# Altium integrated library Linear Technology Power Management LDO Linear Regulators.IntLib: 2339 symbols (part 95 of 131)
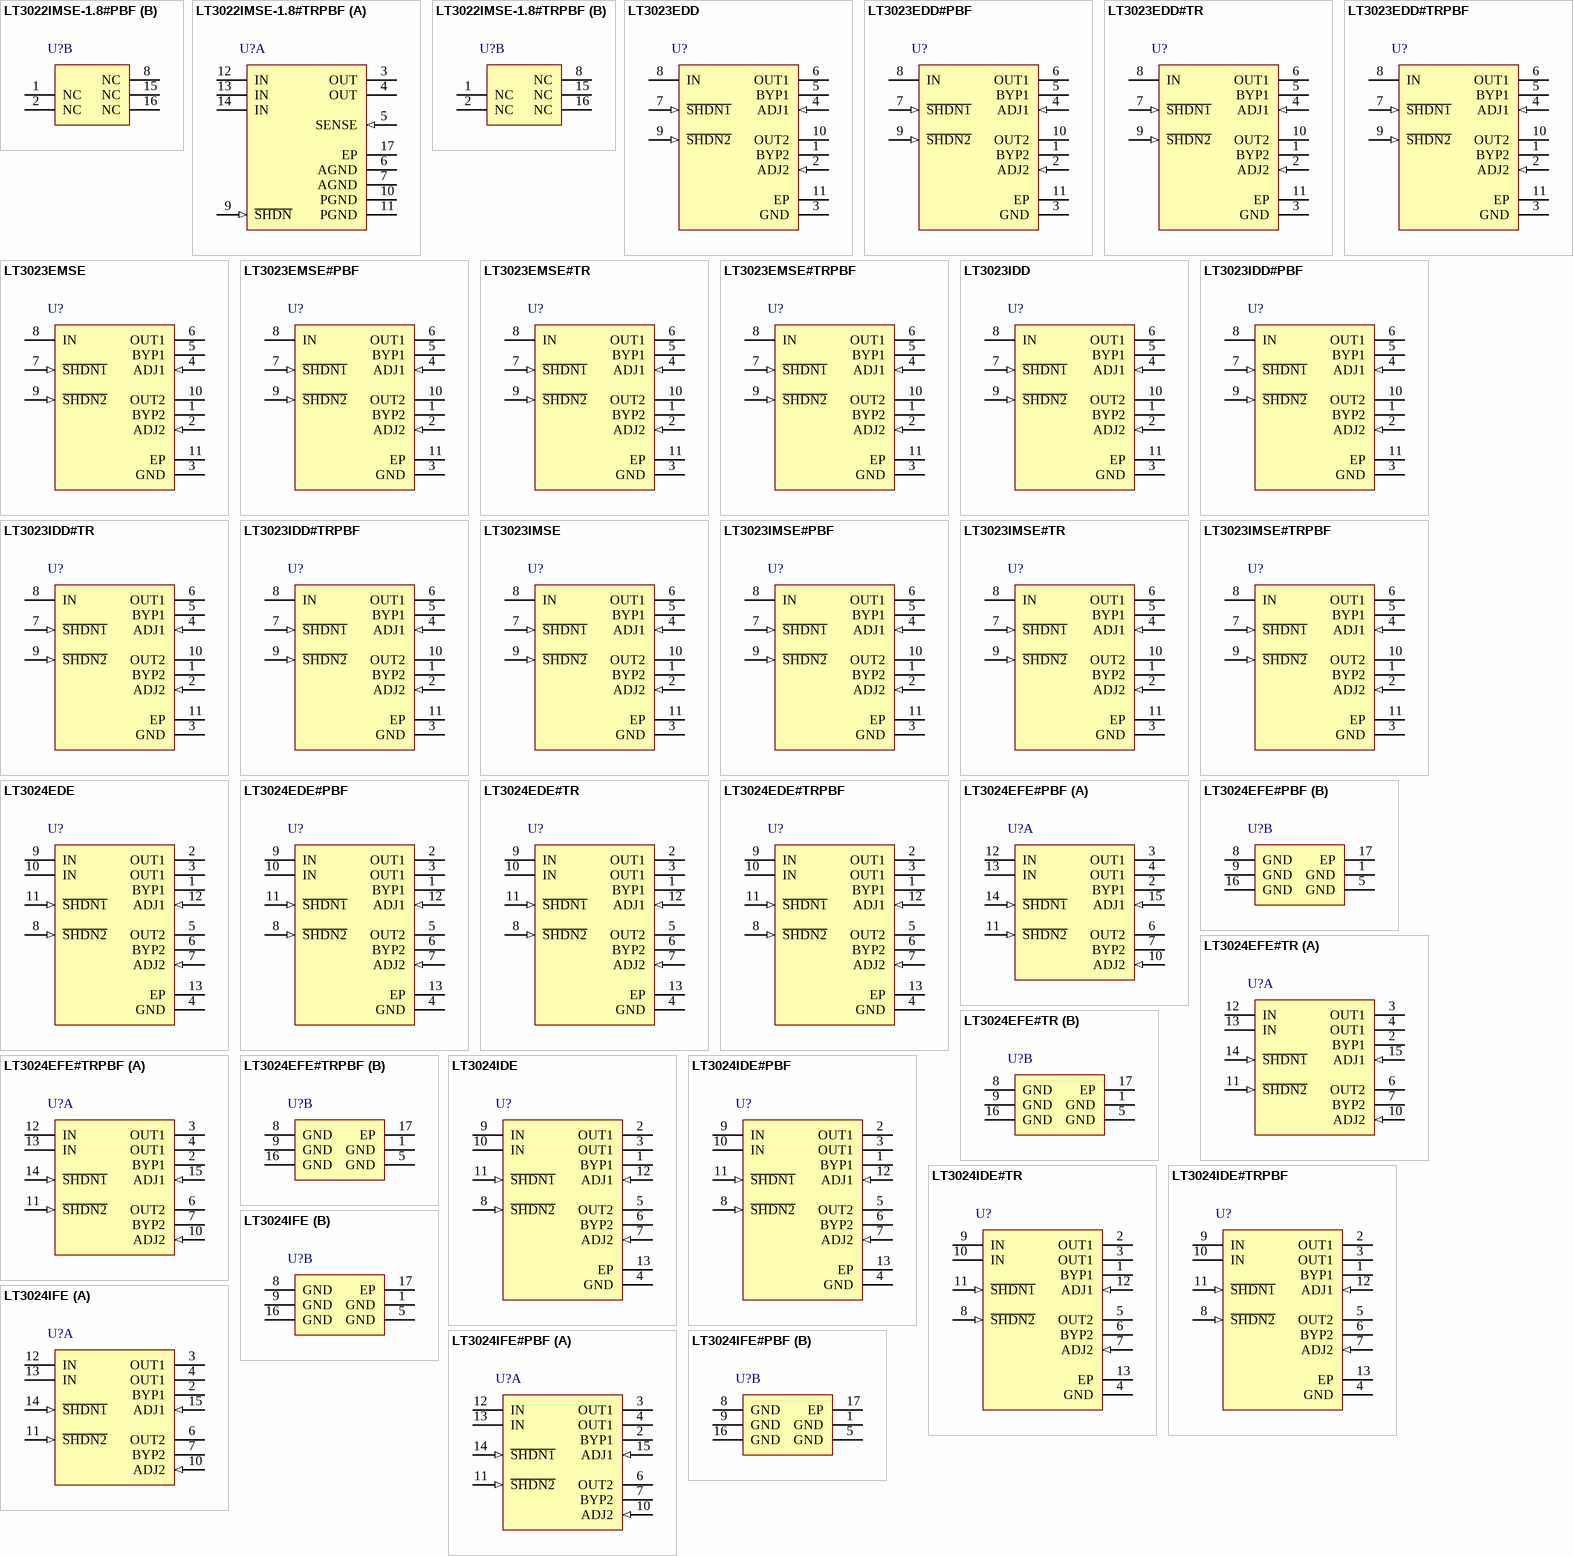
[diagram p163: symbols LT3022IMSE-1.8#PBF to LT3024IFE#PBF]

## LT3022IMSE-1.8#TRPBF
designator U?
1 A, Very Low Dropout Linear Regulator, 0.9 to 10 V Vin, 1.8 V Vout, 16-pin SOP (MSE-16-EDP), -40 to 125 degC, Pb-Free, Tape and Reel; Manufacturer: Linear Technology; PartNumber: LT3022IMSE-1.8#TRPBF; Discrete Pass Element: no; Dropout Voltage(V): 0.145; Iout(mA): 1000; Isupply(mA): 0.4; Noise(uV): 165; Number of Outputs: 1; Output Voltage: 1.8 V; PSRR(dB): 66; Shutdown Current(uA): 7.5; Vin Max(V): 10; Vin Min(V): 0.9; DatasheetVersion: Rev. B; PackageVersion: Rev. F, 05/2013; PackageReference: MSE-16; PackageDescription: 16-Pin Plastic MSOP, Exposed Die Pad, Body 4.039 x 3 mm, Pitch 0.5 mm; Supplier 1: Digi-Key; Supplier Part Number 1: LT3022IMSE-1.8#TRPBF-ND; Supplier 2: Newark; Supplier Part Number 2: 13T4235; Packing: Tape and Reel; RoHS: TRUE; Mounting Technology: Surface Mount; ComponentLink1Description: Manufacturer URL; ComponentLink1URL: http://www.linear.com/; ComponentLink2Description: Datasheet; ComponentLink2URL: http://cds.linear.com/docs/en/datasheet/3022fb.pdf; ComponentLink3Description: Package Specification; ComponentLink3URL: http://cds.linear.com/docs/en/packaging/05081667_F_MSE16.pdf
footprint LT-MSE-16-EDP_N (SOP, 16-Leads, Body 4.039x3mm, Pitch 0.5mm, Thermal Pad 2.95x1.76mm, IPC Medium Density)
footprint LT-MSE-16-EDP_L (SOP, 16-Leads, Body 4.039x3mm, Pitch 0.5mm, Thermal Pad 2.95x1.76mm, IPC High Density)
footprint LT-MSE-16-EDP_M (SOP, 16-Leads, Body 4.039x3mm, Pitch 0.5mm, Thermal Pad 2.95x1.76mm, IPC Low Density)
part A pins: 3 OUT (power) "These pins supply power to the load. Use a minimum output capacitor of 10uF to prevent oscillations. Large load transient applications require larger output capacitors to limit peak voltage transients. See the Applications (See Datasheet)", 4 OUT (power) "These pins supply power to the load. Use a minimum output capacitor of 10uF to prevent oscillations. Large load transient applications require larger output capacitors to limit peak voltage transients. See the Applications (See Datasheet)", 5 SENSE (in) "This pin is the sense point for the internal resistor divider. It should be tied directly to the OUT pins for best results.", 6 AGND (power) "Analog Ground. Tie these pins directly to PGND (Pins 10, 11) and the exposed backside GND (Pin 17). Connect the bottom of the external resistor divider, setting output voltage, directly to AGND for optimum regulation.", 7 AGND (power) "Analog Ground. Tie these pins directly to PGND (Pins 10, 11) and the exposed backside GND (Pin 17). Connect the bottom of the external resistor divider, setting output voltage, directly to AGND for optimum regulation.", 9 ~{SHDN} (in) "Pulling the S\H\D\N\ pin low puts the LT3022 into a low power state and turns the output off. Drive the S\H\D\N\ pin with either logic or an open-collector/drain device with a pull-up resistor. The resistor supplies the (See Datasheet)", 10 PGND (power) "Power Ground. The majority of ground pin current flows out of PGND. Tie these pins directly to AGND (Pins 6, 7) and the exposed backside GND (Pin 17).", 11 PGND (power) "Power Ground. The majority of ground pin current flows out of PGND. Tie these pins directly to AGND (Pins 6, 7) and the exposed backside GND (Pin 17).", 12 IN (power) "These pins supply power to the device. The LT3022 requires a bypass capacitor at IN if located more than six inches from the main input filter capacitor. Include a bypass capacitor in battery-powered circuits as a (See Datasheet)", 13 IN (power) "These pins supply power to the device. The LT3022 requires a bypass capacitor at IN if located more than six inches from the main input filter capacitor. Include a bypass capacitor in battery-powered circuits as a (See Datasheet)", 14 IN (power) "These pins supply power to the device. The LT3022 requires a bypass capacitor at IN if located more than six inches from the main input filter capacitor. Include a bypass capacitor in battery-powered circuits as a (See Datasheet)", 17 EP (power) "Exposed Pad. Tie this pin directly to AGND (Pins 6, 7), PGND (Pins 10, 11) and the PCB ground. This pin provides enhanced thermal performance with its connection to the PCB ground. See the Applications Information section (See Datasheet)"
part B pins: 1 NC "No Connect Pins. These pins have no connection to internal circuitry. These pins may be floated, tied to VIN or tied to GND for improved thermal performance.", 2 NC "No Connect Pins. These pins have no connection to internal circuitry. These pins may be floated, tied to VIN or tied to GND for improved thermal performance.", 8 NC "No Connect Pins. These pins have no connection to internal circuitry. These pins may be floated, tied to VIN or tied to GND for improved thermal performance.", 15 NC "No Connect Pins. These pins have no connection to internal circuitry. These pins may be floated, tied to VIN or tied to GND for improved thermal performance.", 16 NC "No Connect Pins. These pins have no connection to internal circuitry. These pins may be floated, tied to VIN or tied to GND for improved thermal performance."

## LT3023EDD
designator U?
Dual 100 mA, Low Dropout, Low Noise, Micropower Regulator, 1.8 to 20 V Vin, Adjustable Vout, 10-pin SON (DD-10), -40 to 125 degC; Manufacturer: Linear Technology; PartNumber: LT3023EDD; Discrete Pass Element: no; Dropout Voltage(V): 0.3; Iout(mA): 100; Isupply(mA): 0.02; Noise(uV): 20; Number of Outputs: 2; Output Voltage: Adj; PSRR(dB): 65; Shutdown Current(uA): 0.1; Vin Min(V): 1.8; Vout Min(V): 1.22; DatasheetVersion: Rev. A; PackageVersion: Rev. C, 06/2010; PackageReference: DD-10; PackageDescription: 10-Pin Plastic DFN, Body 3 x 3 mm, Pitch 0.5 mm; Supplier 1: Digi-Key; Supplier Part Number 1: LT3023EDD-ND; RoHS: FALSE; Vin Max(V): 20; Vout Max(V): 20; Mounting Technology: Surface Mount; Code_JEDEC: MO-229; ComponentLink1Description: Manufacturer URL; ComponentLink1URL: http://www.linear.com/; ComponentLink2Description: Datasheet; ComponentLink2URL: http://cds.linear.com/docs/en/datasheet/3023fa.pdf; ComponentLink3Description: Package Specification; ComponentLink3URL: http://cds.linear.com/docs/en/packaging/DFN_10_05-08-1699.pdf
footprint LT-DD-10_V (SON, 10-Leads, Body 3x3mm, Pitch 0.5mm, Thermal Pad 2.38x1.65mm)
pins: 1 BYP2 "Bypass. The BYP1/BYP2 pins are used to bypass the reference of the LT3023 regulator to achieve low noise performance from the regulator. The BYP1/BYP2 pins are clamped internally to +/-0.6V (one VBE) from ground. A small (See Datasheet)", 2 ADJ2 (in) "Adjust Pin. These are the inputs to the error amplifiers. These pins are internally clamped to +/-7V. They have a bias current of 30nA which flows into the pin (see curve of ADJ1/ADJ2 Pin Bias Current vs Temperature in the (See Datasheet)", 3 GND (power) "Ground.", 4 ADJ1 (in) "Adjust Pin. These are the inputs to the error amplifiers. These pins are internally clamped to +/-7V. They have a bias current of 30nA which flows into the pin (see curve of ADJ1/ADJ2 Pin Bias Current vs Temperature in the (See Datasheet)", 5 BYP1 "Bypass. The BYP1/BYP2 pins are used to bypass the reference of the LT3023 regulator to achieve low noise performance from the regulator. The BYP1/BYP2 pins are clamped internally to +/-0.6V (one VBE) from ground. A small (See Datasheet)", 6 OUT1 (power) "Output. The outputs supply power to the loads. A minimum output capacitor of 1uF is required to prevent oscillations. Larger output capacitors will be required for applications with large transient loads to limit peak (See Datasheet)", 7 ~{SHDN1} (in) "Shutdown. The S\H\D\N\1\/S\H\D\N\2\ pins are used to put the corresponding channel of the LT3023 regulator into a low power shutdown state. The output will be off when the pin is pulled low. The S\H\D\N\1\/S\H\D\N\2\ pins (See Datasheet)", 8 IN (power) "Input. Power is supplied to the device through the IN pin. A bypass capacitor is required on this pin if the device is more than six inches away from the main input filter capacitor. In general, the output impedance of a (See Datasheet)", 9 ~{SHDN2} (in) "Shutdown. The S\H\D\N\1\/S\H\D\N\2\ pins are used to put the corresponding channel of the LT3023 regulator into a low power shutdown state. The output will be off when the pin is pulled low. The S\H\D\N\1\/S\H\D\N\2\ pins (See Datasheet)", 10 OUT2 (power) "Output. The outputs supply power to the loads. A minimum output capacitor of 1uF is required to prevent oscillations. Larger output capacitors will be required for applications with large transient loads to limit peak (See Datasheet)", 11 EP (power) "Ground. This pin must be soldered to the PCB and electrically connected to ground."

## LT3023EDD#PBF
designator U?
Dual 100 mA, Low Dropout, Low Noise, Micropower Regulator, 1.8 to 20 V Vin, Adjustable Vout, 10-pin SON (DD-10), -40 to 125 degC, Pb-Free; Manufacturer: Linear Technology; PartNumber: LT3023EDD#PBF; Discrete Pass Element: no; Dropout Voltage(V): 0.3; Iout(mA): 100; Isupply(mA): 0.02; Noise(uV): 20; Number of Outputs: 2; Output Voltage: Adj; PSRR(dB): 65; Shutdown Current(uA): 0.1; Vin Min(V): 1.8; Vout Min(V): 1.22; DatasheetVersion: Rev. A; PackageVersion: Rev. C, 06/2010; PackageReference: DD-10; PackageDescription: 10-Pin Plastic DFN, Body 3 x 3 mm, Pitch 0.5 mm; Supplier 1: Digi-Key; Supplier Part Number 1: LT3023EDD#PBF-ND; Supplier 2: Farnell; Supplier Part Number 2: 1663548; Supplier 3: Newark; Supplier Part Number 3: 57M8010; RoHS: TRUE; Vin Max(V): 20; Vout Max(V): 20; Mounting Technology: Surface Mount; Code_JEDEC: MO-229; ComponentLink1Description: Manufacturer URL; ComponentLink1URL: http://www.linear.com/; ComponentLink2Description: Datasheet; ComponentLink2URL: http://cds.linear.com/docs/en/datasheet/3023fa.pdf; ComponentLink3Description: Package Specification; ComponentLink3URL: http://cds.linear.com/docs/en/packaging/DFN_10_05-08-1699.pdf
footprint LT-DD-10_V (SON, 10-Leads, Body 3x3mm, Pitch 0.5mm, Thermal Pad 2.38x1.65mm)
pins: 1 BYP2 "Bypass. The BYP1/BYP2 pins are used to bypass the reference of the LT3023 regulator to achieve low noise performance from the regulator. The BYP1/BYP2 pins are clamped internally to +/-0.6V (one VBE) from ground. A small (See Datasheet)", 2 ADJ2 (in) "Adjust Pin. These are the inputs to the error amplifiers. These pins are internally clamped to +/-7V. They have a bias current of 30nA which flows into the pin (see curve of ADJ1/ADJ2 Pin Bias Current vs Temperature in the (See Datasheet)", 3 GND (power) "Ground.", 4 ADJ1 (in) "Adjust Pin. These are the inputs to the error amplifiers. These pins are internally clamped to +/-7V. They have a bias current of 30nA which flows into the pin (see curve of ADJ1/ADJ2 Pin Bias Current vs Temperature in the (See Datasheet)", 5 BYP1 "Bypass. The BYP1/BYP2 pins are used to bypass the reference of the LT3023 regulator to achieve low noise performance from the regulator. The BYP1/BYP2 pins are clamped internally to +/-0.6V (one VBE) from ground. A small (See Datasheet)", 6 OUT1 (power) "Output. The outputs supply power to the loads. A minimum output capacitor of 1uF is required to prevent oscillations. Larger output capacitors will be required for applications with large transient loads to limit peak (See Datasheet)", 7 ~{SHDN1} (in) "Shutdown. The S\H\D\N\1\/S\H\D\N\2\ pins are used to put the corresponding channel of the LT3023 regulator into a low power shutdown state. The output will be off when the pin is pulled low. The S\H\D\N\1\/S\H\D\N\2\ pins (See Datasheet)", 8 IN (power) "Input. Power is supplied to the device through the IN pin. A bypass capacitor is required on this pin if the device is more than six inches away from the main input filter capacitor. In general, the output impedance of a (See Datasheet)", 9 ~{SHDN2} (in) "Shutdown. The S\H\D\N\1\/S\H\D\N\2\ pins are used to put the corresponding channel of the LT3023 regulator into a low power shutdown state. The output will be off when the pin is pulled low. The S\H\D\N\1\/S\H\D\N\2\ pins (See Datasheet)", 10 OUT2 (power) "Output. The outputs supply power to the loads. A minimum output capacitor of 1uF is required to prevent oscillations. Larger output capacitors will be required for applications with large transient loads to limit peak (See Datasheet)", 11 EP (power) "Ground. This pin must be soldered to the PCB and electrically connected to ground."

## LT3023EDD#TR
designator U?
Dual 100 mA, Low Dropout, Low Noise, Micropower Regulator, 1.8 to 20 V Vin, Adjustable Vout, 10-pin SON (DD-10), -40 to 125 degC, Tape and Reel; Manufacturer: Linear Technology; PartNumber: LT3023EDD#TR; Discrete Pass Element: no; Dropout Voltage(V): 0.3; Iout(mA): 100; Isupply(mA): 0.02; Noise(uV): 20; Number of Outputs: 2; Output Voltage: Adj; PSRR(dB): 65; Shutdown Current(uA): 0.1; Vin Min(V): 1.8; Vout Min(V): 1.22; DatasheetVersion: Rev. A; PackageVersion: Rev. C, 06/2010; PackageReference: DD-10; PackageDescription: 10-Pin Plastic DFN, Body 3 x 3 mm, Pitch 0.5 mm; Supplier 1: Digi-Key; Supplier Part Number 1: LT3023EDD#TR-ND; Supplier 2: Newark; Supplier Part Number 2: 57M8011; Packing: Tape and Reel; RoHS: FALSE; Vin Max(V): 20; Vout Max(V): 20; Mounting Technology: Surface Mount; Code_JEDEC: MO-229; ComponentLink1Description: Manufacturer URL; ComponentLink1URL: http://www.linear.com/; ComponentLink2Description: Datasheet; ComponentLink2URL: http://cds.linear.com/docs/en/datasheet/3023fa.pdf; ComponentLink3Description: Package Specification; ComponentLink3URL: http://cds.linear.com/docs/en/packaging/DFN_10_05-08-1699.pdf
footprint LT-DD-10_V (SON, 10-Leads, Body 3x3mm, Pitch 0.5mm, Thermal Pad 2.38x1.65mm)
pins: 1 BYP2 "Bypass. The BYP1/BYP2 pins are used to bypass the reference of the LT3023 regulator to achieve low noise performance from the regulator. The BYP1/BYP2 pins are clamped internally to +/-0.6V (one VBE) from ground. A small (See Datasheet)", 2 ADJ2 (in) "Adjust Pin. These are the inputs to the error amplifiers. These pins are internally clamped to +/-7V. They have a bias current of 30nA which flows into the pin (see curve of ADJ1/ADJ2 Pin Bias Current vs Temperature in the (See Datasheet)", 3 GND (power) "Ground.", 4 ADJ1 (in) "Adjust Pin. These are the inputs to the error amplifiers. These pins are internally clamped to +/-7V. They have a bias current of 30nA which flows into the pin (see curve of ADJ1/ADJ2 Pin Bias Current vs Temperature in the (See Datasheet)", 5 BYP1 "Bypass. The BYP1/BYP2 pins are used to bypass the reference of the LT3023 regulator to achieve low noise performance from the regulator. The BYP1/BYP2 pins are clamped internally to +/-0.6V (one VBE) from ground. A small (See Datasheet)", 6 OUT1 (power) "Output. The outputs supply power to the loads. A minimum output capacitor of 1uF is required to prevent oscillations. Larger output capacitors will be required for applications with large transient loads to limit peak (See Datasheet)", 7 ~{SHDN1} (in) "Shutdown. The S\H\D\N\1\/S\H\D\N\2\ pins are used to put the corresponding channel of the LT3023 regulator into a low power shutdown state. The output will be off when the pin is pulled low. The S\H\D\N\1\/S\H\D\N\2\ pins (See Datasheet)", 8 IN (power) "Input. Power is supplied to the device through the IN pin. A bypass capacitor is required on this pin if the device is more than six inches away from the main input filter capacitor. In general, the output impedance of a (See Datasheet)", 9 ~{SHDN2} (in) "Shutdown. The S\H\D\N\1\/S\H\D\N\2\ pins are used to put the corresponding channel of the LT3023 regulator into a low power shutdown state. The output will be off when the pin is pulled low. The S\H\D\N\1\/S\H\D\N\2\ pins (See Datasheet)", 10 OUT2 (power) "Output. The outputs supply power to the loads. A minimum output capacitor of 1uF is required to prevent oscillations. Larger output capacitors will be required for applications with large transient loads to limit peak (See Datasheet)", 11 EP (power) "Ground. This pin must be soldered to the PCB and electrically connected to ground."

## LT3023EDD#TRPBF
designator U?
Dual 100 mA, Low Dropout, Low Noise, Micropower Regulator, 1.8 to 20 V Vin, Adjustable Vout, 10-pin SON (DD-10), -40 to 125 degC, Pb-Free, Tape and Reel; Manufacturer: Linear Technology; PartNumber: LT3023EDD#TRPBF; Discrete Pass Element: no; Dropout Voltage(V): 0.3; Iout(mA): 100; Isupply(mA): 0.02; Noise(uV): 20; Number of Outputs: 2; Output Voltage: Adj; PSRR(dB): 65; Shutdown Current(uA): 0.1; Vin Min(V): 1.8; Vout Min(V): 1.22; DatasheetVersion: Rev. A; PackageVersion: Rev. C, 06/2010; PackageReference: DD-10; PackageDescription: 10-Pin Plastic DFN, Body 3 x 3 mm, Pitch 0.5 mm; Supplier 1: Digi-Key; Supplier Part Number 1: LT3023EDD#TRPBF-ND; Supplier 2: Newark; Supplier Part Number 2: 57M8012; Packing: Tape and Reel; RoHS: TRUE; Vin Max(V): 20; Vout Max(V): 20; Mounting Technology: Surface Mount; Code_JEDEC: MO-229; ComponentLink1Description: Manufacturer URL; ComponentLink1URL: http://www.linear.com/; ComponentLink2Description: Datasheet; ComponentLink2URL: http://cds.linear.com/docs/en/datasheet/3023fa.pdf; ComponentLink3Description: Package Specification; ComponentLink3URL: http://cds.linear.com/docs/en/packaging/DFN_10_05-08-1699.pdf
footprint LT-DD-10_V (SON, 10-Leads, Body 3x3mm, Pitch 0.5mm, Thermal Pad 2.38x1.65mm)
pins: 1 BYP2 "Bypass. The BYP1/BYP2 pins are used to bypass the reference of the LT3023 regulator to achieve low noise performance from the regulator. The BYP1/BYP2 pins are clamped internally to +/-0.6V (one VBE) from ground. A small (See Datasheet)", 2 ADJ2 (in) "Adjust Pin. These are the inputs to the error amplifiers. These pins are internally clamped to +/-7V. They have a bias current of 30nA which flows into the pin (see curve of ADJ1/ADJ2 Pin Bias Current vs Temperature in the (See Datasheet)", 3 GND (power) "Ground.", 4 ADJ1 (in) "Adjust Pin. These are the inputs to the error amplifiers. These pins are internally clamped to +/-7V. They have a bias current of 30nA which flows into the pin (see curve of ADJ1/ADJ2 Pin Bias Current vs Temperature in the (See Datasheet)", 5 BYP1 "Bypass. The BYP1/BYP2 pins are used to bypass the reference of the LT3023 regulator to achieve low noise performance from the regulator. The BYP1/BYP2 pins are clamped internally to +/-0.6V (one VBE) from ground. A small (See Datasheet)", 6 OUT1 (power) "Output. The outputs supply power to the loads. A minimum output capacitor of 1uF is required to prevent oscillations. Larger output capacitors will be required for applications with large transient loads to limit peak (See Datasheet)", 7 ~{SHDN1} (in) "Shutdown. The S\H\D\N\1\/S\H\D\N\2\ pins are used to put the corresponding channel of the LT3023 regulator into a low power shutdown state. The output will be off when the pin is pulled low. The S\H\D\N\1\/S\H\D\N\2\ pins (See Datasheet)", 8 IN (power) "Input. Power is supplied to the device through the IN pin. A bypass capacitor is required on this pin if the device is more than six inches away from the main input filter capacitor. In general, the output impedance of a (See Datasheet)", 9 ~{SHDN2} (in) "Shutdown. The S\H\D\N\1\/S\H\D\N\2\ pins are used to put the corresponding channel of the LT3023 regulator into a low power shutdown state. The output will be off when the pin is pulled low. The S\H\D\N\1\/S\H\D\N\2\ pins (See Datasheet)", 10 OUT2 (power) "Output. The outputs supply power to the loads. A minimum output capacitor of 1uF is required to prevent oscillations. Larger output capacitors will be required for applications with large transient loads to limit peak (See Datasheet)", 11 EP (power) "Ground. This pin must be soldered to the PCB and electrically connected to ground."

## LT3023EMSE
designator U?
Dual 100 mA, Low Dropout, Low Noise, Micropower Regulator, 1.8 to 20 V Vin, Adjustable Vout, 10-pin SOP (MSE-10-EDP), -40 to 125 degC; Manufacturer: Linear Technology; PartNumber: LT3023EMSE; Discrete Pass Element: no; Dropout Voltage(V): 0.3; Iout(mA): 100; Isupply(mA): 0.02; Noise(uV): 20; Number of Outputs: 2; Output Voltage: Adj; PSRR(dB): 65; Shutdown Current(uA): 0.1; Vin Min(V): 1.8; Vout Min(V): 1.22; DatasheetVersion: Rev. A; PackageVersion: Rev. C, 08/2009; PackageReference: MSE-10; PackageDescription: 10-Pin Plastic MSOP, Exposed Die Pad, Body 3 x 3 mm, Pitch 0.5 mm; Supplier 1: Digi-Key; Supplier Part Number 1: LT3023EMSE-ND; Supplier 2: Newark; Supplier Part Number 2: 57M8013; RoHS: FALSE; Vin Max(V): 20; Vout Max(V): 20; Mounting Technology: Surface Mount; ComponentLink1Description: Manufacturer URL; ComponentLink1URL: http://www.linear.com/; ComponentLink2Description: Datasheet; ComponentLink2URL: http://cds.linear.com/docs/en/datasheet/3023fa.pdf; ComponentLink3Description: Package Specification; ComponentLink3URL: http://cds.linear.com/docs/en/datasheet/3481fc.pdf
footprint LT-MSE-10-EDP-2060x1830TP_N (SOP, 10-Leads, Body 3.1x3.1mm, Pitch 0.5mm, Thermal Pad 2.17x1.94mm, IPC Medium Density)
footprint LT-MSE-10-EDP-2060x1830TP_L (SOP, 10-Leads, Body 3.1x3.1mm, Pitch 0.5mm, Thermal Pad 2.17x1.94mm, IPC High Density)
footprint LT-MSE-10-EDP-2060x1830TP_M (SOP, 10-Leads, Body 3.1x3.1mm, Pitch 0.5mm, Thermal Pad 2.17x1.94mm, IPC Low Density)
pins: 1 BYP2 "Bypass. The BYP1/BYP2 pins are used to bypass the reference of the LT3023 regulator to achieve low noise performance from the regulator. The BYP1/BYP2 pins are clamped internally to +/-0.6V (one VBE) from ground. A small (See Datasheet)", 2 ADJ2 (in) "Adjust Pin. These are the inputs to the error amplifiers. These pins are internally clamped to +/-7V. They have a bias current of 30nA which flows into the pin (see curve of ADJ1/ADJ2 Pin Bias Current vs Temperature in the (See Datasheet)", 3 GND (power) "Ground.", 4 ADJ1 (in) "Adjust Pin. These are the inputs to the error amplifiers. These pins are internally clamped to +/-7V. They have a bias current of 30nA which flows into the pin (see curve of ADJ1/ADJ2 Pin Bias Current vs Temperature in the (See Datasheet)", 5 BYP1 "Bypass. The BYP1/BYP2 pins are used to bypass the reference of the LT3023 regulator to achieve low noise performance from the regulator. The BYP1/BYP2 pins are clamped internally to +/-0.6V (one VBE) from ground. A small (See Datasheet)", 6 OUT1 (power) "Output. The outputs supply power to the loads. A minimum output capacitor of 1uF is required to prevent oscillations. Larger output capacitors will be required for applications with large transient loads to limit peak (See Datasheet)", 7 ~{SHDN1} (in) "Shutdown. The S\H\D\N\1\/S\H\D\N\2\ pins are used to put the corresponding channel of the LT3023 regulator into a low power shutdown state. The output will be off when the pin is pulled low. The S\H\D\N\1\/S\H\D\N\2\ pins (See Datasheet)", 8 IN (power) "Input. Power is supplied to the device through the IN pin. A bypass capacitor is required on this pin if the device is more than six inches away from the main input filter capacitor. In general, the output impedance of a (See Datasheet)", 9 ~{SHDN2} (in) "Shutdown. The S\H\D\N\1\/S\H\D\N\2\ pins are used to put the corresponding channel of the LT3023 regulator into a low power shutdown state. The output will be off when the pin is pulled low. The S\H\D\N\1\/S\H\D\N\2\ pins (See Datasheet)", 10 OUT2 (power) "Output. The outputs supply power to the loads. A minimum output capacitor of 1uF is required to prevent oscillations. Larger output capacitors will be required for applications with large transient loads to limit peak (See Datasheet)", 11 EP (power) "Ground. This pin must be soldered to the PCB and electrically connected to ground."

## LT3023EMSE#PBF
designator U?
Dual 100 mA, Low Dropout, Low Noise, Micropower Regulator, 1.8 to 20 V Vin, Adjustable Vout, 10-pin SOP (MSE-10-EDP), -40 to 125 degC, Pb-Free; Manufacturer: Linear Technology; PartNumber: LT3023EMSE#PBF; Discrete Pass Element: no; Dropout Voltage(V): 0.3; Iout(mA): 100; Isupply(mA): 0.02; Noise(uV): 20; Number of Outputs: 2; Output Voltage: Adj; PSRR(dB): 65; Shutdown Current(uA): 0.1; Vin Min(V): 1.8; Vout Min(V): 1.22; DatasheetVersion: Rev. A; PackageVersion: Rev. C, 08/2009; PackageReference: MSE-10; PackageDescription: 10-Pin Plastic MSOP, Exposed Die Pad, Body 3 x 3 mm, Pitch 0.5 mm; Supplier 1: Digi-Key; Supplier Part Number 1: LT3023EMSE#PBF-ND; Supplier 2: Farnell; Supplier Part Number 2: 1273638; Supplier 3: Newark; Supplier Part Number 3: 57M8014; RoHS: TRUE; Vin Max(V): 20; Vout Max(V): 20; Mounting Technology: Surface Mount; ComponentLink1Description: Manufacturer URL; ComponentLink1URL: http://www.linear.com/; ComponentLink2Description: Datasheet; ComponentLink2URL: http://cds.linear.com/docs/en/datasheet/3023fa.pdf; ComponentLink3Description: Package Specification; ComponentLink3URL: http://cds.linear.com/docs/en/datasheet/3481fc.pdf
footprint LT-MSE-10-EDP-2060x1830TP_N (SOP, 10-Leads, Body 3.1x3.1mm, Pitch 0.5mm, Thermal Pad 2.17x1.94mm, IPC Medium Density)
footprint LT-MSE-10-EDP-2060x1830TP_L (SOP, 10-Leads, Body 3.1x3.1mm, Pitch 0.5mm, Thermal Pad 2.17x1.94mm, IPC High Density)
footprint LT-MSE-10-EDP-2060x1830TP_M (SOP, 10-Leads, Body 3.1x3.1mm, Pitch 0.5mm, Thermal Pad 2.17x1.94mm, IPC Low Density)
pins: 1 BYP2 "Bypass. The BYP1/BYP2 pins are used to bypass the reference of the LT3023 regulator to achieve low noise performance from the regulator. The BYP1/BYP2 pins are clamped internally to +/-0.6V (one VBE) from ground. A small (See Datasheet)", 2 ADJ2 (in) "Adjust Pin. These are the inputs to the error amplifiers. These pins are internally clamped to +/-7V. They have a bias current of 30nA which flows into the pin (see curve of ADJ1/ADJ2 Pin Bias Current vs Temperature in the (See Datasheet)", 3 GND (power) "Ground.", 4 ADJ1 (in) "Adjust Pin. These are the inputs to the error amplifiers. These pins are internally clamped to +/-7V. They have a bias current of 30nA which flows into the pin (see curve of ADJ1/ADJ2 Pin Bias Current vs Temperature in the (See Datasheet)", 5 BYP1 "Bypass. The BYP1/BYP2 pins are used to bypass the reference of the LT3023 regulator to achieve low noise performance from the regulator. The BYP1/BYP2 pins are clamped internally to +/-0.6V (one VBE) from ground. A small (See Datasheet)", 6 OUT1 (power) "Output. The outputs supply power to the loads. A minimum output capacitor of 1uF is required to prevent oscillations. Larger output capacitors will be required for applications with large transient loads to limit peak (See Datasheet)", 7 ~{SHDN1} (in) "Shutdown. The S\H\D\N\1\/S\H\D\N\2\ pins are used to put the corresponding channel of the LT3023 regulator into a low power shutdown state. The output will be off when the pin is pulled low. The S\H\D\N\1\/S\H\D\N\2\ pins (See Datasheet)", 8 IN (power) "Input. Power is supplied to the device through the IN pin. A bypass capacitor is required on this pin if the device is more than six inches away from the main input filter capacitor. In general, the output impedance of a (See Datasheet)", 9 ~{SHDN2} (in) "Shutdown. The S\H\D\N\1\/S\H\D\N\2\ pins are used to put the corresponding channel of the LT3023 regulator into a low power shutdown state. The output will be off when the pin is pulled low. The S\H\D\N\1\/S\H\D\N\2\ pins (See Datasheet)", 10 OUT2 (power) "Output. The outputs supply power to the loads. A minimum output capacitor of 1uF is required to prevent oscillations. Larger output capacitors will be required for applications with large transient loads to limit peak (See Datasheet)", 11 EP (power) "Ground. This pin must be soldered to the PCB and electrically connected to ground."

## LT3023EMSE#TR
designator U?
Dual 100 mA, Low Dropout, Low Noise, Micropower Regulator, 1.8 to 20 V Vin, Adjustable Vout, 10-pin SOP (MSE-10-EDP), -40 to 125 degC, Tape and Reel; Manufacturer: Linear Technology; PartNumber: LT3023EMSE#TR; Discrete Pass Element: no; Dropout Voltage(V): 0.3; Iout(mA): 100; Isupply(mA): 0.02; Noise(uV): 20; Number of Outputs: 2; Output Voltage: Adj; PSRR(dB): 65; Shutdown Current(uA): 0.1; Vin Min(V): 1.8; Vout Min(V): 1.22; DatasheetVersion: Rev. A; PackageVersion: Rev. C, 08/2009; PackageReference: MSE-10; PackageDescription: 10-Pin Plastic MSOP, Exposed Die Pad, Body 3 x 3 mm, Pitch 0.5 mm; Supplier 1: Digi-Key; Supplier Part Number 1: LT3023EMSE#TR-ND; Packing: Tape and Reel; RoHS: FALSE; Vin Max(V): 20; Vout Max(V): 20; Mounting Technology: Surface Mount; ComponentLink1Description: Manufacturer URL; ComponentLink1URL: http://www.linear.com/; ComponentLink2Description: Datasheet; ComponentLink2URL: http://cds.linear.com/docs/en/datasheet/3023fa.pdf; ComponentLink3Description: Package Specification; ComponentLink3URL: http://cds.linear.com/docs/en/datasheet/3481fc.pdf
footprint LT-MSE-10-EDP-2060x1830TP_N (SOP, 10-Leads, Body 3.1x3.1mm, Pitch 0.5mm, Thermal Pad 2.17x1.94mm, IPC Medium Density)
footprint LT-MSE-10-EDP-2060x1830TP_L (SOP, 10-Leads, Body 3.1x3.1mm, Pitch 0.5mm, Thermal Pad 2.17x1.94mm, IPC High Density)
footprint LT-MSE-10-EDP-2060x1830TP_M (SOP, 10-Leads, Body 3.1x3.1mm, Pitch 0.5mm, Thermal Pad 2.17x1.94mm, IPC Low Density)
pins: 1 BYP2 "Bypass. The BYP1/BYP2 pins are used to bypass the reference of the LT3023 regulator to achieve low noise performance from the regulator. The BYP1/BYP2 pins are clamped internally to +/-0.6V (one VBE) from ground. A small (See Datasheet)", 2 ADJ2 (in) "Adjust Pin. These are the inputs to the error amplifiers. These pins are internally clamped to +/-7V. They have a bias current of 30nA which flows into the pin (see curve of ADJ1/ADJ2 Pin Bias Current vs Temperature in the (See Datasheet)", 3 GND (power) "Ground.", 4 ADJ1 (in) "Adjust Pin. These are the inputs to the error amplifiers. These pins are internally clamped to +/-7V. They have a bias current of 30nA which flows into the pin (see curve of ADJ1/ADJ2 Pin Bias Current vs Temperature in the (See Datasheet)", 5 BYP1 "Bypass. The BYP1/BYP2 pins are used to bypass the reference of the LT3023 regulator to achieve low noise performance from the regulator. The BYP1/BYP2 pins are clamped internally to +/-0.6V (one VBE) from ground. A small (See Datasheet)", 6 OUT1 (power) "Output. The outputs supply power to the loads. A minimum output capacitor of 1uF is required to prevent oscillations. Larger output capacitors will be required for applications with large transient loads to limit peak (See Datasheet)", 7 ~{SHDN1} (in) "Shutdown. The S\H\D\N\1\/S\H\D\N\2\ pins are used to put the corresponding channel of the LT3023 regulator into a low power shutdown state. The output will be off when the pin is pulled low. The S\H\D\N\1\/S\H\D\N\2\ pins (See Datasheet)", 8 IN (power) "Input. Power is supplied to the device through the IN pin. A bypass capacitor is required on this pin if the device is more than six inches away from the main input filter capacitor. In general, the output impedance of a (See Datasheet)", 9 ~{SHDN2} (in) "Shutdown. The S\H\D\N\1\/S\H\D\N\2\ pins are used to put the corresponding channel of the LT3023 regulator into a low power shutdown state. The output will be off when the pin is pulled low. The S\H\D\N\1\/S\H\D\N\2\ pins (See Datasheet)", 10 OUT2 (power) "Output. The outputs supply power to the loads. A minimum output capacitor of 1uF is required to prevent oscillations. Larger output capacitors will be required for applications with large transient loads to limit peak (See Datasheet)", 11 EP (power) "Ground. This pin must be soldered to the PCB and electrically connected to ground."

## LT3023EMSE#TRPBF
designator U?
Dual 100 mA, Low Dropout, Low Noise, Micropower Regulator, 1.8 to 20 V Vin, Adjustable Vout, 10-pin SOP (MSE-10-EDP), -40 to 125 degC, Pb-Free, Tape and Reel; Manufacturer: Linear Technology; PartNumber: LT3023EMSE#TRPBF; Discrete Pass Element: no; Dropout Voltage(V): 0.3; Iout(mA): 100; Isupply(mA): 0.02; Noise(uV): 20; Number of Outputs: 2; Output Voltage: Adj; PSRR(dB): 65; Shutdown Current(uA): 0.1; Vin Min(V): 1.8; Vout Min(V): 1.22; DatasheetVersion: Rev. A; PackageVersion: Rev. C, 08/2009; PackageReference: MSE-10; PackageDescription: 10-Pin Plastic MSOP, Exposed Die Pad, Body 3 x 3 mm, Pitch 0.5 mm; Supplier 1: Digi-Key; Supplier Part Number 1: LT3023EMSE#TRPBF-ND; Supplier 2: Newark; Supplier Part Number 2: 57M8016; Packing: Tape and Reel; RoHS: TRUE; Vin Max(V): 20; Vout Max(V): 20; Mounting Technology: Surface Mount; ComponentLink1Description: Manufacturer URL; ComponentLink1URL: http://www.linear.com/; ComponentLink2Description: Datasheet; ComponentLink2URL: http://cds.linear.com/docs/en/datasheet/3023fa.pdf; ComponentLink3Description: Package Specification; ComponentLink3URL: http://cds.linear.com/docs/en/datasheet/3481fc.pdf
footprint LT-MSE-10-EDP-2060x1830TP_N (SOP, 10-Leads, Body 3.1x3.1mm, Pitch 0.5mm, Thermal Pad 2.17x1.94mm, IPC Medium Density)
footprint LT-MSE-10-EDP-2060x1830TP_L (SOP, 10-Leads, Body 3.1x3.1mm, Pitch 0.5mm, Thermal Pad 2.17x1.94mm, IPC High Density)
footprint LT-MSE-10-EDP-2060x1830TP_M (SOP, 10-Leads, Body 3.1x3.1mm, Pitch 0.5mm, Thermal Pad 2.17x1.94mm, IPC Low Density)
pins: 1 BYP2 "Bypass. The BYP1/BYP2 pins are used to bypass the reference of the LT3023 regulator to achieve low noise performance from the regulator. The BYP1/BYP2 pins are clamped internally to +/-0.6V (one VBE) from ground. A small (See Datasheet)", 2 ADJ2 (in) "Adjust Pin. These are the inputs to the error amplifiers. These pins are internally clamped to +/-7V. They have a bias current of 30nA which flows into the pin (see curve of ADJ1/ADJ2 Pin Bias Current vs Temperature in the (See Datasheet)", 3 GND (power) "Ground.", 4 ADJ1 (in) "Adjust Pin. These are the inputs to the error amplifiers. These pins are internally clamped to +/-7V. They have a bias current of 30nA which flows into the pin (see curve of ADJ1/ADJ2 Pin Bias Current vs Temperature in the (See Datasheet)", 5 BYP1 "Bypass. The BYP1/BYP2 pins are used to bypass the reference of the LT3023 regulator to achieve low noise performance from the regulator. The BYP1/BYP2 pins are clamped internally to +/-0.6V (one VBE) from ground. A small (See Datasheet)", 6 OUT1 (power) "Output. The outputs supply power to the loads. A minimum output capacitor of 1uF is required to prevent oscillations. Larger output capacitors will be required for applications with large transient loads to limit peak (See Datasheet)", 7 ~{SHDN1} (in) "Shutdown. The S\H\D\N\1\/S\H\D\N\2\ pins are used to put the corresponding channel of the LT3023 regulator into a low power shutdown state. The output will be off when the pin is pulled low. The S\H\D\N\1\/S\H\D\N\2\ pins (See Datasheet)", 8 IN (power) "Input. Power is supplied to the device through the IN pin. A bypass capacitor is required on this pin if the device is more than six inches away from the main input filter capacitor. In general, the output impedance of a (See Datasheet)", 9 ~{SHDN2} (in) "Shutdown. The S\H\D\N\1\/S\H\D\N\2\ pins are used to put the corresponding channel of the LT3023 regulator into a low power shutdown state. The output will be off when the pin is pulled low. The S\H\D\N\1\/S\H\D\N\2\ pins (See Datasheet)", 10 OUT2 (power) "Output. The outputs supply power to the loads. A minimum output capacitor of 1uF is required to prevent oscillations. Larger output capacitors will be required for applications with large transient loads to limit peak (See Datasheet)", 11 EP (power) "Ground. This pin must be soldered to the PCB and electrically connected to ground."

## LT3023IDD
designator U?
Dual 100 mA, Low Dropout, Low Noise, Micropower Regulator, 1.8 to 20 V Vin, Adjustable Vout, 10-pin SON (DD-10), -40 to 125 degC; Manufacturer: Linear Technology; PartNumber: LT3023IDD; Discrete Pass Element: no; Dropout Voltage(V): 0.3; Iout(mA): 100; Isupply(mA): 0.02; Noise(uV): 20; Number of Outputs: 2; Output Voltage: Adj; PSRR(dB): 65; Shutdown Current(uA): 0.1; Vin Min(V): 1.8; Vout Min(V): 1.22; DatasheetVersion: Rev. A; PackageVersion: Rev. C, 06/2010; PackageReference: DD-10; PackageDescription: 10-Pin Plastic DFN, Body 3 x 3 mm, Pitch 0.5 mm; Supplier 1: Newark; Supplier Part Number 1: 75M4706; RoHS: FALSE; Vin Max(V): 20; Vout Max(V): 20; Mounting Technology: Surface Mount; Code_JEDEC: MO-229; ComponentLink1Description: Manufacturer URL; ComponentLink1URL: http://www.linear.com/; ComponentLink2Description: Datasheet; ComponentLink2URL: http://cds.linear.com/docs/en/datasheet/3023fa.pdf; ComponentLink3Description: Package Specification; ComponentLink3URL: http://cds.linear.com/docs/en/packaging/DFN_10_05-08-1699.pdf
footprint LT-DD-10_V (SON, 10-Leads, Body 3x3mm, Pitch 0.5mm, Thermal Pad 2.38x1.65mm)
pins: 1 BYP2 "Bypass. The BYP1/BYP2 pins are used to bypass the reference of the LT3023 regulator to achieve low noise performance from the regulator. The BYP1/BYP2 pins are clamped internally to +/-0.6V (one VBE) from ground. A small (See Datasheet)", 2 ADJ2 (in) "Adjust Pin. These are the inputs to the error amplifiers. These pins are internally clamped to +/-7V. They have a bias current of 30nA which flows into the pin (see curve of ADJ1/ADJ2 Pin Bias Current vs Temperature in the (See Datasheet)", 3 GND (power) "Ground.", 4 ADJ1 (in) "Adjust Pin. These are the inputs to the error amplifiers. These pins are internally clamped to +/-7V. They have a bias current of 30nA which flows into the pin (see curve of ADJ1/ADJ2 Pin Bias Current vs Temperature in the (See Datasheet)", 5 BYP1 "Bypass. The BYP1/BYP2 pins are used to bypass the reference of the LT3023 regulator to achieve low noise performance from the regulator. The BYP1/BYP2 pins are clamped internally to +/-0.6V (one VBE) from ground. A small (See Datasheet)", 6 OUT1 (power) "Output. The outputs supply power to the loads. A minimum output capacitor of 1uF is required to prevent oscillations. Larger output capacitors will be required for applications with large transient loads to limit peak (See Datasheet)", 7 ~{SHDN1} (in) "Shutdown. The S\H\D\N\1\/S\H\D\N\2\ pins are used to put the corresponding channel of the LT3023 regulator into a low power shutdown state. The output will be off when the pin is pulled low. The S\H\D\N\1\/S\H\D\N\2\ pins (See Datasheet)", 8 IN (power) "Input. Power is supplied to the device through the IN pin. A bypass capacitor is required on this pin if the device is more than six inches away from the main input filter capacitor. In general, the output impedance of a (See Datasheet)", 9 ~{SHDN2} (in) "Shutdown. The S\H\D\N\1\/S\H\D\N\2\ pins are used to put the corresponding channel of the LT3023 regulator into a low power shutdown state. The output will be off when the pin is pulled low. The S\H\D\N\1\/S\H\D\N\2\ pins (See Datasheet)", 10 OUT2 (power) "Output. The outputs supply power to the loads. A minimum output capacitor of 1uF is required to prevent oscillations. Larger output capacitors will be required for applications with large transient loads to limit peak (See Datasheet)", 11 EP (power) "Ground. This pin must be soldered to the PCB and electrically connected to ground."

## LT3023IDD#PBF
designator U?
Dual 100 mA, Low Dropout, Low Noise, Micropower Regulator, 1.8 to 20 V Vin, Adjustable Vout, 10-pin SON (DD-10), -40 to 125 degC, Pb-Free; Manufacturer: Linear Technology; PartNumber: LT3023IDD#PBF; Discrete Pass Element: no; Dropout Voltage(V): 0.3; Iout(mA): 100; Isupply(mA): 0.02; Noise(uV): 20; Number of Outputs: 2; Output Voltage: Adj; PSRR(dB): 65; Shutdown Current(uA): 0.1; Vin Min(V): 1.8; Vout Min(V): 1.22; DatasheetVersion: Rev. A; PackageVersion: Rev. C, 06/2010; PackageReference: DD-10; PackageDescription: 10-Pin Plastic DFN, Body 3 x 3 mm, Pitch 0.5 mm; Supplier 1: Digi-Key; Supplier Part Number 1: LT3023IDD#PBF-ND; Supplier 2: Farnell; Supplier Part Number 2: 2295254; Supplier 3: Newark; Supplier Part Number 3: 75M4707; RoHS: TRUE; Vin Max(V): 20; Vout Max(V): 20; Mounting Technology: Surface Mount; Code_JEDEC: MO-229; ComponentLink1Description: Manufacturer URL; ComponentLink1URL: http://www.linear.com/; ComponentLink2Description: Datasheet; ComponentLink2URL: http://cds.linear.com/docs/en/datasheet/3023fa.pdf; ComponentLink3Description: Package Specification; ComponentLink3URL: http://cds.linear.com/docs/en/packaging/DFN_10_05-08-1699.pdf
footprint LT-DD-10_V (SON, 10-Leads, Body 3x3mm, Pitch 0.5mm, Thermal Pad 2.38x1.65mm)
pins: 1 BYP2 "Bypass. The BYP1/BYP2 pins are used to bypass the reference of the LT3023 regulator to achieve low noise performance from the regulator. The BYP1/BYP2 pins are clamped internally to +/-0.6V (one VBE) from ground. A small (See Datasheet)", 2 ADJ2 (in) "Adjust Pin. These are the inputs to the error amplifiers. These pins are internally clamped to +/-7V. They have a bias current of 30nA which flows into the pin (see curve of ADJ1/ADJ2 Pin Bias Current vs Temperature in the (See Datasheet)", 3 GND (power) "Ground.", 4 ADJ1 (in) "Adjust Pin. These are the inputs to the error amplifiers. These pins are internally clamped to +/-7V. They have a bias current of 30nA which flows into the pin (see curve of ADJ1/ADJ2 Pin Bias Current vs Temperature in the (See Datasheet)", 5 BYP1 "Bypass. The BYP1/BYP2 pins are used to bypass the reference of the LT3023 regulator to achieve low noise performance from the regulator. The BYP1/BYP2 pins are clamped internally to +/-0.6V (one VBE) from ground. A small (See Datasheet)", 6 OUT1 (power) "Output. The outputs supply power to the loads. A minimum output capacitor of 1uF is required to prevent oscillations. Larger output capacitors will be required for applications with large transient loads to limit peak (See Datasheet)", 7 ~{SHDN1} (in) "Shutdown. The S\H\D\N\1\/S\H\D\N\2\ pins are used to put the corresponding channel of the LT3023 regulator into a low power shutdown state. The output will be off when the pin is pulled low. The S\H\D\N\1\/S\H\D\N\2\ pins (See Datasheet)", 8 IN (power) "Input. Power is supplied to the device through the IN pin. A bypass capacitor is required on this pin if the device is more than six inches away from the main input filter capacitor. In general, the output impedance of a (See Datasheet)", 9 ~{SHDN2} (in) "Shutdown. The S\H\D\N\1\/S\H\D\N\2\ pins are used to put the corresponding channel of the LT3023 regulator into a low power shutdown state. The output will be off when the pin is pulled low. The S\H\D\N\1\/S\H\D\N\2\ pins (See Datasheet)", 10 OUT2 (power) "Output. The outputs supply power to the loads. A minimum output capacitor of 1uF is required to prevent oscillations. Larger output capacitors will be required for applications with large transient loads to limit peak (See Datasheet)", 11 EP (power) "Ground. This pin must be soldered to the PCB and electrically connected to ground."

## LT3023IDD#TR
designator U?
Dual 100 mA, Low Dropout, Low Noise, Micropower Regulator, 1.8 to 20 V Vin, Adjustable Vout, 10-pin SON (DD-10), -40 to 125 degC, Tape and Reel; Manufacturer: Linear Technology; PartNumber: LT3023IDD#TR; Discrete Pass Element: no; Dropout Voltage(V): 0.3; Iout(mA): 100; Isupply(mA): 0.02; Noise(uV): 20; Number of Outputs: 2; Output Voltage: Adj; PSRR(dB): 65; Shutdown Current(uA): 0.1; Vin Min(V): 1.8; Vout Min(V): 1.22; DatasheetVersion: Rev. A; PackageVersion: Rev. C, 06/2010; PackageReference: DD-10; PackageDescription: 10-Pin Plastic DFN, Body 3 x 3 mm, Pitch 0.5 mm; Packing: Tape and Reel; RoHS: FALSE; Vin Max(V): 20; Vout Max(V): 20; Mounting Technology: Surface Mount; Code_JEDEC: MO-229; ComponentLink1Description: Manufacturer URL; ComponentLink1URL: http://www.linear.com/; ComponentLink2Description: Datasheet; ComponentLink2URL: http://cds.linear.com/docs/en/datasheet/3023fa.pdf; ComponentLink3Description: Package Specification; ComponentLink3URL: http://cds.linear.com/docs/en/packaging/DFN_10_05-08-1699.pdf
footprint LT-DD-10_V (SON, 10-Leads, Body 3x3mm, Pitch 0.5mm, Thermal Pad 2.38x1.65mm)
pins: 1 BYP2 "Bypass. The BYP1/BYP2 pins are used to bypass the reference of the LT3023 regulator to achieve low noise performance from the regulator. The BYP1/BYP2 pins are clamped internally to +/-0.6V (one VBE) from ground. A small (See Datasheet)", 2 ADJ2 (in) "Adjust Pin. These are the inputs to the error amplifiers. These pins are internally clamped to +/-7V. They have a bias current of 30nA which flows into the pin (see curve of ADJ1/ADJ2 Pin Bias Current vs Temperature in the (See Datasheet)", 3 GND (power) "Ground.", 4 ADJ1 (in) "Adjust Pin. These are the inputs to the error amplifiers. These pins are internally clamped to +/-7V. They have a bias current of 30nA which flows into the pin (see curve of ADJ1/ADJ2 Pin Bias Current vs Temperature in the (See Datasheet)", 5 BYP1 "Bypass. The BYP1/BYP2 pins are used to bypass the reference of the LT3023 regulator to achieve low noise performance from the regulator. The BYP1/BYP2 pins are clamped internally to +/-0.6V (one VBE) from ground. A small (See Datasheet)", 6 OUT1 (power) "Output. The outputs supply power to the loads. A minimum output capacitor of 1uF is required to prevent oscillations. Larger output capacitors will be required for applications with large transient loads to limit peak (See Datasheet)", 7 ~{SHDN1} (in) "Shutdown. The S\H\D\N\1\/S\H\D\N\2\ pins are used to put the corresponding channel of the LT3023 regulator into a low power shutdown state. The output will be off when the pin is pulled low. The S\H\D\N\1\/S\H\D\N\2\ pins (See Datasheet)", 8 IN (power) "Input. Power is supplied to the device through the IN pin. A bypass capacitor is required on this pin if the device is more than six inches away from the main input filter capacitor. In general, the output impedance of a (See Datasheet)", 9 ~{SHDN2} (in) "Shutdown. The S\H\D\N\1\/S\H\D\N\2\ pins are used to put the corresponding channel of the LT3023 regulator into a low power shutdown state. The output will be off when the pin is pulled low. The S\H\D\N\1\/S\H\D\N\2\ pins (See Datasheet)", 10 OUT2 (power) "Output. The outputs supply power to the loads. A minimum output capacitor of 1uF is required to prevent oscillations. Larger output capacitors will be required for applications with large transient loads to limit peak (See Datasheet)", 11 EP (power) "Ground. This pin must be soldered to the PCB and electrically connected to ground."

## LT3023IDD#TRPBF
designator U?
Dual 100 mA, Low Dropout, Low Noise, Micropower Regulator, 1.8 to 20 V Vin, Adjustable Vout, 10-pin SON (DD-10), -40 to 125 degC, Pb-Free, Tape and Reel; Manufacturer: Linear Technology; PartNumber: LT3023IDD#TRPBF; Discrete Pass Element: no; Dropout Voltage(V): 0.3; Iout(mA): 100; Isupply(mA): 0.02; Noise(uV): 20; Number of Outputs: 2; Output Voltage: Adj; PSRR(dB): 65; Shutdown Current(uA): 0.1; Vin Min(V): 1.8; Vout Min(V): 1.22; DatasheetVersion: Rev. A; PackageVersion: Rev. C, 06/2010; PackageReference: DD-10; PackageDescription: 10-Pin Plastic DFN, Body 3 x 3 mm, Pitch 0.5 mm; Supplier 1: Digi-Key; Supplier Part Number 1: LT3023IDD#TRPBF-ND; Packing: Tape and Reel; RoHS: TRUE; Vin Max(V): 20; Vout Max(V): 20; Mounting Technology: Surface Mount; Code_JEDEC: MO-229; ComponentLink1Description: Manufacturer URL; ComponentLink1URL: http://www.linear.com/; ComponentLink2Description: Datasheet; ComponentLink2URL: http://cds.linear.com/docs/en/datasheet/3023fa.pdf; ComponentLink3Description: Package Specification; ComponentLink3URL: http://cds.linear.com/docs/en/packaging/DFN_10_05-08-1699.pdf
footprint LT-DD-10_V (SON, 10-Leads, Body 3x3mm, Pitch 0.5mm, Thermal Pad 2.38x1.65mm)
pins: 1 BYP2 "Bypass. The BYP1/BYP2 pins are used to bypass the reference of the LT3023 regulator to achieve low noise performance from the regulator. The BYP1/BYP2 pins are clamped internally to +/-0.6V (one VBE) from ground. A small (See Datasheet)", 2 ADJ2 (in) "Adjust Pin. These are the inputs to the error amplifiers. These pins are internally clamped to +/-7V. They have a bias current of 30nA which flows into the pin (see curve of ADJ1/ADJ2 Pin Bias Current vs Temperature in the (See Datasheet)", 3 GND (power) "Ground.", 4 ADJ1 (in) "Adjust Pin. These are the inputs to the error amplifiers. These pins are internally clamped to +/-7V. They have a bias current of 30nA which flows into the pin (see curve of ADJ1/ADJ2 Pin Bias Current vs Temperature in the (See Datasheet)", 5 BYP1 "Bypass. The BYP1/BYP2 pins are used to bypass the reference of the LT3023 regulator to achieve low noise performance from the regulator. The BYP1/BYP2 pins are clamped internally to +/-0.6V (one VBE) from ground. A small (See Datasheet)", 6 OUT1 (power) "Output. The outputs supply power to the loads. A minimum output capacitor of 1uF is required to prevent oscillations. Larger output capacitors will be required for applications with large transient loads to limit peak (See Datasheet)", 7 ~{SHDN1} (in) "Shutdown. The S\H\D\N\1\/S\H\D\N\2\ pins are used to put the corresponding channel of the LT3023 regulator into a low power shutdown state. The output will be off when the pin is pulled low. The S\H\D\N\1\/S\H\D\N\2\ pins (See Datasheet)", 8 IN (power) "Input. Power is supplied to the device through the IN pin. A bypass capacitor is required on this pin if the device is more than six inches away from the main input filter capacitor. In general, the output impedance of a (See Datasheet)", 9 ~{SHDN2} (in) "Shutdown. The S\H\D\N\1\/S\H\D\N\2\ pins are used to put the corresponding channel of the LT3023 regulator into a low power shutdown state. The output will be off when the pin is pulled low. The S\H\D\N\1\/S\H\D\N\2\ pins (See Datasheet)", 10 OUT2 (power) "Output. The outputs supply power to the loads. A minimum output capacitor of 1uF is required to prevent oscillations. Larger output capacitors will be required for applications with large transient loads to limit peak (See Datasheet)", 11 EP (power) "Ground. This pin must be soldered to the PCB and electrically connected to ground."